# EAGLE library part LCD-JHD12864C (library SparkFun-Displays)
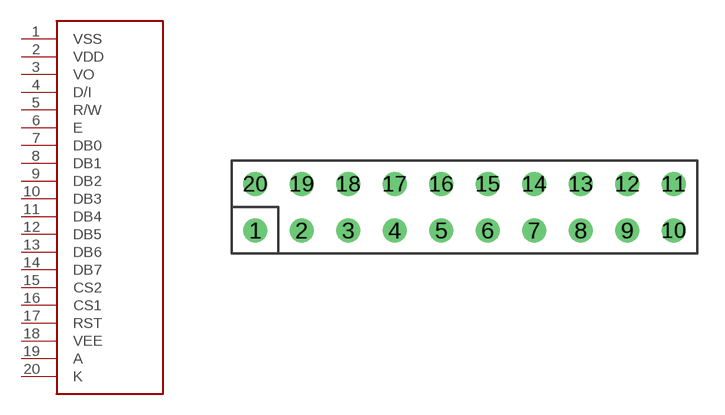
[diagram p11: symbol with the pads of LCDJHD12864-10X2; footprint LCDJHD12864-10X2]

Designator prefix -

## LCD-JHD12864C  [LCDJHD12864-10X2]
1  VSS  pwr
2  VDD  pwr
3  VO
4  D/I  in
5  R/W  in
6  E  in
7  DB0
8  DB1
9  DB2
10  DB3
11  DB4
12  DB5
13  DB6
14  DB7
15  CS2  in
16  CS1  in
17  RST  in
18  VEE
19  A  pwr
20  K  pwr

## Footprint LCDJHD12864-10X2 (pad centres in mm)
drill 0.8: 1 -10.16,0; 2 -7.62,0; 3 -5.08,0; 4 -2.54,0; 5 0,0; 6 2.54,0; 7 5.08,0; 8 7.62,0; 9 10.16,0; 10 12.7,0; 11 12.7,2.54; 12 10.16,2.54; 13 7.62,2.54; 14 5.08,2.54; 15 2.54,2.54; 16 0,2.54; 17 -2.54,2.54; 18 -5.08,2.54; 19 -7.62,2.54; 20 -10.16,2.54